# Altium footprint library 按键采集CAN.PcbLib: 15 footprints
Each footprint in its own frame and in the unit in brackets; x right, y up, seen from the top. Pads: shape width x height; smd on the part's side, far side on the other; paste and mask are expansions set on the pad; w line width, h text height; cw(c..) or ccw(c..) is an arc to the next point about the centre after c.
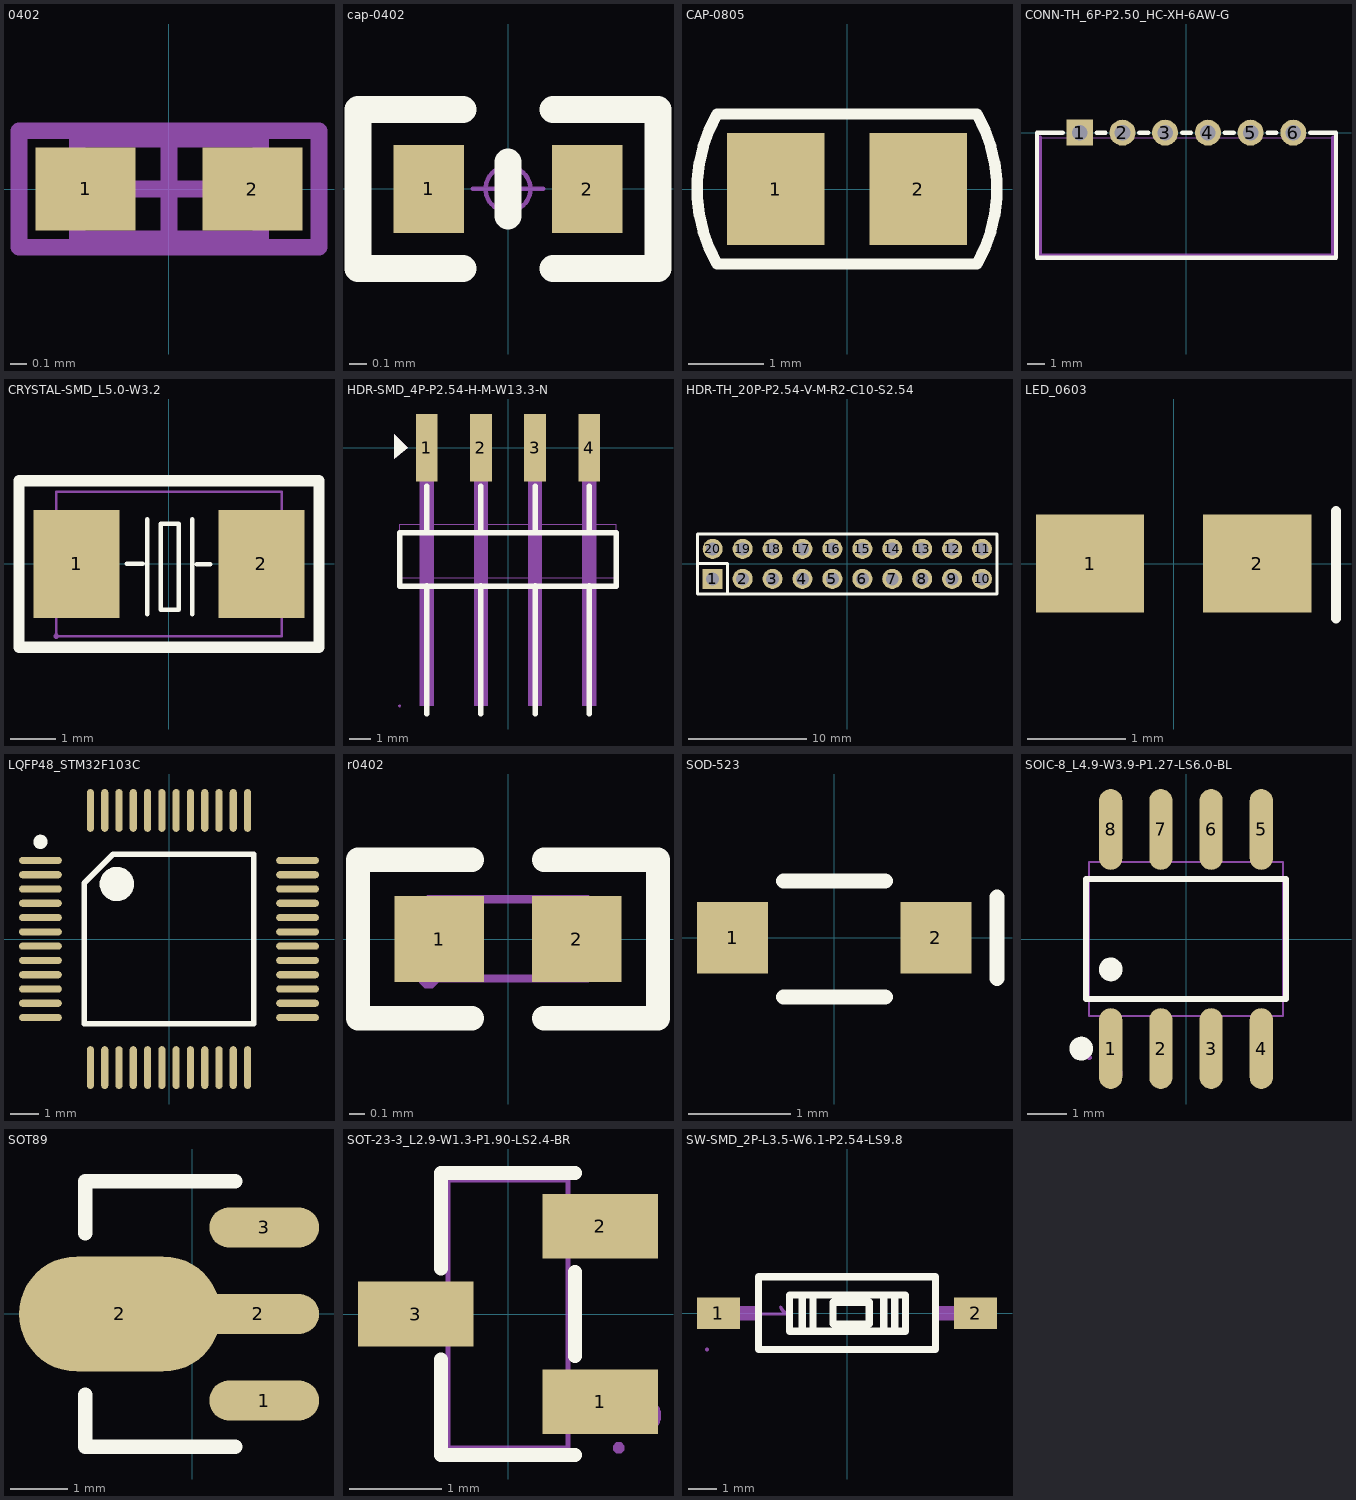
[diagram p0: the footprints below, top view; thin cyan lines are the x and y axes]

## 0402 [mm] "Chip Capacitor, Body 1.0x0.5mm, IPC High Density"
height 1.3
pads (2):
  rect 0.6x0.5 smd: 1(-0.5,0) 2(0.5,0)
Mechanical 13:
  lines w0.1: -0.55,-0.3 0.55,-0.3 0.55,0.3 -0.55,0.3 -0.55,-0.3
Mechanical 15:
  lines w0.1: -0.3,0 0.3,0 ; 0,-0.3 0,0.3 ; -0.9,-0.35 0.9,-0.35 0.9,0.35 -0.9,0.35 -0.9,-0.35
3D body: height 1.3, standoff 0, extent -0.55,-0.3 0.55,0.3

## cap-0402 [mm] "贴片MLCC电容"
pads (2):
  rect 0.4x0.5 smd: 1(-0.45,0) 2(0.45,0)
Top Overlay:
  lines w0.152: -0.254,-0.45 -0.85,-0.45 ; -0.254,0.45 -0.85,0.45 -0.85,-0.45 ; 0,-0.152 0,0.152 ; 0.254,-0.45 0.85,-0.45 0.85,0.45 0.254,0.45 ; -0.85,-0.45 -0.85,-0.45
Mechanical 15:
  circle w0.025: c0,0 r0.127
  lines w0.025: -0.2,0 0.2,0 ; 0,-0.2 0,0.2
3D body "C 0402.STEP": height 0.54, standoff 0.02, extent -0.5,-0.26 0.5,0.26

## CAP-0805 [mm] "0805封装贴片电容"
height 1
pads (2):
  rect 1.3x1.5 smd: 1(-0.95,0) 2(0.95,0)
Top Overlay:
  lines w0.15: -1.732,-1 cw(c0,0) -1.732,1 1.732,1 cw(c0,0) 1.732,-1 -1.732,-1
3D body: height 0.8, standoff 0, extent -1.016,-0.635 1.016,0.635
3D body: height 0.9, standoff 0, extent -1.27,-0.635 -0.889,0.635
3D body: height 0.9, standoff 0, extent 0.889,-0.635 1.27,0.635

## CONN-TH_6P-P2.50_HC-XH-6AW-G [mil]
pads (6):
  rect 60x60 hole 36 paste+0 mask+2: 1(-246,0)
  round 60 hole 36 paste+0 mask+2: 2(-147.6,0) 3(-49.2,0) 4(49.3,0) 5(147.7,0) 6(246.1,0)
Top Overlay:
  lines w10: -285.1,0 -344.4,0 -344.4,-288.2 344.5,-288.2 344.5,0 285.2,0 ; -206.9,0 -186.7,0 ; -108.5,0 -88.3,0 ; -10.1,0 10.2,0 ; 88.4,0 108.6,0 ; 186.8,0 207,0
Mechanical 2:
  region: -333.5,-11.9 -333.5,-278.5 333.6,-278.5 333.6,-11.9 333.6,-9.83 336.53,-6.9 340.67,-6.9 343.6,-9.83 343.6,-11.9 343.6,-283.5 343.6,-284.49 342.84,-286.33 341.43,-287.74 339.59,-288.5 338.6,-288.5 -338.5,-288.5 -339.49,-288.5 -341.33,-287.74 -342.74,-286.33 -343.5,-284.49 -343.5,-283.5 -343.5,-11.9 -343.5,-9.83 -340.57,-6.9 -336.43,-6.9 -333.5,-9.83 -333.5,-11.9
Mechanical 6:
  lines w2: -344.4,-287.2 344.5,-287.2 344.5,-11.6 -344.4,-11.6 -344.4,-287.2
Mechanical 8:
  region: -342,-287.2 -342,-288.19 -343.41,-289.6 -345.39,-289.6 -346.8,-288.19 -346.8,-287.2 -346.8,-286.21 -345.39,-284.8 -343.41,-284.8 -342,-286.21 -342,-287.2 -342.1,-287.2
Mechanical 9:
  region: -258.6,12.5 -233.4,12.5 -233.4,-12.6 -258.6,-12.6
  region: -160.2,12.5 -135,12.5 -135,-12.6 -160.2,-12.6
  region: -61.8,12.5 -36.6,12.5 -36.6,-12.6 -61.8,-12.6
  region: 36.7,12.5 61.9,12.5 61.9,-12.6 36.7,-12.6
  region: 135.1,12.5 160.3,12.5 160.3,-12.6 135.1,-12.6
  region: 233.5,12.5 258.7,12.5 258.7,-12.6 233.5,-12.6
3D body "wafer-xh254wz-6am.step": height 236.14, standoff -130, extent -339.69,-290 349.69,10.79

## CRYSTAL-SMD_L5.0-W3.2 [mm]
height 7.01
pads (2):
  rect 1.9x2.4 smd mask+0.051: 1(-2.05,0) 2(2.05,0)
Top Overlay:
  lines w0.1: -0.94,0 -0.584,0 ; -0.483,-1.109 -0.483,0.991 ; 0.517,-1.109 0.517,0.991 ; 0.617,-0.009 0.917,-0.009 ; -0.183,-1.009 -0.183,0.89 0.217,0.89 0.217,-1.009 -0.183,-1.009
  lines w0.254: -3.325,-1.85 3.325,-1.85 3.325,-0.7 3.325,0.7 3.325,1.85 -3.325,1.85 -3.325,0.7 -3.325,-0.7 -3.325,-1.85
Mechanical 15:
  region: -2.44,-1.6 -2.44,-1.575 -2.475,-1.54 -2.525,-1.54 -2.56,-1.575 -2.56,-1.6 -2.56,-1.625 -2.525,-1.66 -2.475,-1.66 -2.44,-1.625 -2.44,-1.6
  region: -2.4,1 -1.3,1 -1.3,-1 -2.4,-1
  region: 1.3,1 2.4,1 2.4,-1 1.3,-1
  lines w0.051: -2.5,-1.6 -2.5,1.6 2.5,1.6 2.5,-1.6 -2.5,-1.6
3D body "x50328msb2gi.step": height 1.41, standoff -0.01, extent -2.475,-1.6 2.525,1.6

## HDR-SMD_4P-P2.54-H-M-W13.3-N [mm]
pads (4):
  rect 1.021x3.16 smd paste+0 mask+0.051: 1(-3.81,0) 2(-1.27,0) 3(1.27,0) 4(3.81,0)
Top Overlay:
  region: -4.699,0 -5.334,0.635 -5.334,-0.508
  lines w0.254: -3.81,-12.476 -3.81,-6.477 ; -3.81,-3.983 -3.81,-1.811 ; -1.27,-12.476 -1.27,-6.477 ; -1.27,-3.983 -1.27,-1.811 ; 1.27,-12.476 1.27,-6.477 ; 1.27,-3.983 1.27,-1.811 ; 3.81,-12.476 3.81,-6.477 ; 3.81,-3.983 3.81,-1.811 ; -5.08,-6.485 5.08,-6.485 5.08,-3.983 -5.08,-3.983 -5.08,-6.485
Mechanical 2:
  region: -4.699,0 -5.334,0.635 -5.334,-0.508
  region: 3.487,-6.096 3.487,-12.095 4.127,-12.095 4.127,-6.096
  region: 0.947,-6.096 0.947,-12.095 1.587,-12.095 1.587,-6.096
  region: -1.593,-6.096 -1.593,-12.095 -0.953,-12.095 -0.953,-6.096
  region: -4.133,-6.096 -4.133,-12.095 -3.492,-12.095 -3.492,-6.096
Mechanical 6:
  lines w0.051: -5.08,-6.096 5.08,-6.096 5.08,-3.597 -5.08,-3.597 -5.08,-6.096
Mechanical 7:
  region: 3.49,1.204 4.13,1.204 4.13,-12.095 3.49,-12.095
  region: 0.95,1.204 1.59,1.204 1.59,-12.095 0.95,-12.095
  region: -1.59,1.204 -0.95,1.204 -0.95,-12.095 -1.59,-12.095
  region: -4.13,1.204 -3.49,1.204 -3.49,-12.095 -4.13,-12.095
Mechanical 8:
  region: -5.019,-12.095 -5.019,-12.121 -5.055,-12.156 -5.105,-12.156 -5.141,-12.121 -5.141,-12.095 -5.141,-12.07 -5.105,-12.035 -5.055,-12.035 -5.019,-12.07
Mechanical 9:
  region: 3.49,1.204 4.13,1.204 4.13,-0.996 3.49,-0.996
  region: 0.95,1.204 1.59,1.204 1.59,-0.996 0.95,-0.996
  region: -1.59,1.204 -0.95,1.204 -0.95,-0.996 -1.59,-0.996
  region: -4.13,1.204 -3.49,1.204 -3.49,-0.996 -4.13,-0.996

## HDR-TH_20P-P2.54-V-M-R2-C10-S2.54 [mm]
pads (20):
  rect 1.699x1.699 hole 1.1: 1(-11.43,-1.27)
  round 1.699 hole 1.1: 2(-8.89,-1.27) 3(-6.35,-1.27) 4(-3.81,-1.27) 5(-1.27,-1.27) 6(1.27,-1.27) 7(3.81,-1.27) 8(6.35,-1.27) 9(8.89,-1.27) 10(11.43,-1.27) 11(11.43,1.27) 12(8.89,1.27) 13(6.35,1.27) 14(3.81,1.27) 15(1.27,1.27) 16(-1.27,1.27) 17(-3.81,1.27) 18(-6.35,1.27) 19(-8.89,1.27) 20(-11.43,1.27)
Top Overlay:
  lines w0.254: -12.7,0.041 -10.16,0.041 -10.16,-2.499 ; -12.7,-2.54 -12.7,2.54 -10.795,2.54 12.7,2.54 12.7,-2.54 -10.795,-2.54 -12.7,-2.54
Mechanical 6:
  lines w0.051: -12.7,-2.499 12.7,-2.499 12.7,2.499 -12.7,2.499 -12.7,-2.499
Mechanical 8:
  region: -12.639,-2.499 -12.639,-2.525 -12.675,-2.56 -12.725,-2.56 -12.761,-2.525 -12.761,-2.499 -12.761,-2.474 -12.725,-2.438 -12.675,-2.438 -12.639,-2.474
Mechanical 9:
  region: 11.11,1.59 11.75,1.59 11.75,0.95 11.11,0.95
  region: 11.11,-0.95 11.75,-0.95 11.75,-1.59 11.11,-1.59
  region: 8.57,1.59 9.21,1.59 9.21,0.95 8.57,0.95
  region: 8.57,-0.95 9.21,-0.95 9.21,-1.59 8.57,-1.59
  region: 6.03,1.59 6.67,1.59 6.67,0.95 6.03,0.95
  region: 6.03,-0.95 6.67,-0.95 6.67,-1.59 6.03,-1.59
  region: 3.49,1.59 4.13,1.59 4.13,0.95 3.49,0.95
  region: 3.49,-0.95 4.13,-0.95 4.13,-1.59 3.49,-1.59
  region: 0.95,1.59 1.59,1.59 1.59,0.95 0.95,0.95
  region: 0.95,-0.95 1.59,-0.95 1.59,-1.59 0.95,-1.59
  region: -1.59,1.59 -0.95,1.59 -0.95,0.95 -1.59,0.95
  region: -1.59,-0.95 -0.95,-0.95 -0.95,-1.59 -1.59,-1.59
  region: -4.13,1.59 -3.49,1.59 -3.49,0.95 -4.13,0.95
  region: -4.13,-0.95 -3.49,-0.95 -3.49,-1.59 -4.13,-1.59
  region: -6.67,1.59 -6.03,1.59 -6.03,0.95 -6.67,0.95
  region: -6.67,-0.95 -6.03,-0.95 -6.03,-1.59 -6.67,-1.59
  region: -9.21,1.59 -8.57,1.59 -8.57,0.95 -9.21,0.95
  region: -9.21,-0.95 -8.57,-0.95 -8.57,-1.59 -9.21,-1.59
  region: -11.75,1.59 -11.11,1.59 -11.11,0.95 -11.75,0.95
  region: -11.75,-0.95 -11.11,-0.95 -11.11,-1.59 -11.75,-1.59

## LED_0603 [mm] "带丝印层"
height 1.45
pads (2):
  rect 1.1x1 smd: 1(-0.85,0) 2(0.85,0)
Top Overlay:
  lines w0.1: 1.651,-0.559 1.651,0.533
3D body "LED_0603(Yellow).STEP": height 0.6, standoff 0, extent -0.81,-0.4 0.81,0.4

## LQFP48_STM32F103C [mm]
height 1.45
pads (48):
  oval 1.5x0.25 smd: 1(-4.5,2.75) 2(-4.5,2.25) 3(-4.5,1.75) 4(-4.5,1.25) 5(-4.5,0.75) 6(-4.5,0.25) 7(-4.5,-0.25) 8(-4.5,-0.75) 9(-4.5,-1.25) 10(-4.5,-1.75) 11(-4.5,-2.25) 12(-4.5,-2.75) 25(4.5,-2.75) 26(4.5,-2.25) 27(4.5,-1.75) 28(4.5,-1.25) 29(4.5,-0.75) 30(4.5,-0.25) 31(4.5,0.25) 32(4.5,0.75) 33(4.5,1.25) 34(4.5,1.75) 35(4.5,2.25) 36(4.5,2.75)
  oval 0.25x1.5 smd: 13(-2.75,-4.5) 14(-2.25,-4.5) 15(-1.75,-4.5) 16(-1.25,-4.5) 17(-0.75,-4.5) 18(-0.25,-4.5) 19(0.25,-4.5) 20(0.75,-4.5) 21(1.25,-4.5) 22(1.75,-4.5) 23(2.25,-4.5) 24(2.75,-4.5) 37(2.75,4.5) 38(2.25,4.5) 39(1.75,4.5) 40(1.25,4.5) 41(0.75,4.5) 42(0.25,4.5) 43(-0.25,4.5) 44(-0.75,4.5) 45(-1.25,4.5) 46(-1.75,4.5) 47(-2.25,4.5) 48(-2.75,4.5)
Top Overlay:
  circle w0.6: c-1.825,1.925 r0.3
  circle w0.25: c-4.5,3.4 r0.125
  lines w0.2: -2.965,-2.965 2.965,-2.965 2.965,2.965 -1.96,2.965 -2.965,1.96 -2.965,-2.965
3D body "LQFP48-STM32F103C8T6.STEP": height 1.6, standoff 0, extent -4.521,-4.493 4.479,4.507

## r0402 [mm]
pads (2):
  rect 0.566x0.54 smd mask+0.051: 1(-0.433,0) 2(0.433,0)
Top Overlay:
  lines w0.152: -0.226,-0.499 -0.944,-0.499 -0.944,0.499 -0.226,0.499 ; 0.226,-0.499 0.944,-0.499 0.944,0.499 0.226,0.499
Top Paste:
  region: -0.135,-0.23 -0.135,0.23 -0.175,0.27 -0.676,0.27 -0.716,0.23 -0.716,-0.23 -0.676,-0.27 -0.175,-0.27
  region: 0.135,-0.23 0.135,0.23 0.175,0.27 0.676,0.27 0.716,0.23 0.716,-0.23 0.676,-0.27 0.175,-0.27
Mechanical 15:
  region: -0.249,0.25 -0.249,-0.25 -0.499,-0.25 -0.499,0.25
  region: 0.251,-0.25 0.251,0.25 0.501,0.25 0.501,-0.25
  region: -0.44,-0.25 -0.44,-0.225 -0.475,-0.19 -0.525,-0.19 -0.56,-0.225 -0.56,-0.25 -0.56,-0.275 -0.525,-0.31 -0.475,-0.31 -0.44,-0.275 -0.44,-0.25
  lines w0.051: -0.5,-0.25 0.5,-0.25 0.5,0.25 -0.5,0.25 -0.5,-0.25
3D body "R0402.STEP": height 0.3, standoff 0, extent -0.5,-0.25 0.5,0.25

## SOD-523 [mm]
pads (2):
  rect 0.7x0.7 smd: 1(-1,0) 2(1,0)
Top Overlay:
  lines w0.15: -0.5,-0.584 0.5,-0.584 ; -0.5,0.559 0.5,0.559 ; 1.6,-0.4 1.6,0.4
3D body "SOD-523.STEP": height 0.7, standoff 0, extent -0.8,-0.424 0.8,0.373

## SOIC-8_L4.9-W3.9-P1.27-LS6.0-BL [mm]
height 7.01
pads (8):
  oval 0.588x2.045 smd: 1(-1.905,-2.772) 2(-0.635,-2.772) 3(0.635,-2.772) 4(1.905,-2.772) 5(1.905,2.772) 6(0.635,2.772) 7(-0.635,2.772) 8(-1.905,2.772)
Top Overlay:
  circle w0.3: c-2.652,-2.772 r0.15
  circle w0.3: c-1.905,-0.769 r0.15
  lines w0.152: -2.526,-1.521 2.526,-1.521 2.526,1.521 -2.526,1.521 -2.526,-1.521
Mechanical 6:
  circle w0.3: c-1.905,-3.4 r0.15
Mechanical 15:
  region: 1.695,2.175 1.695,1.94 2.115,1.94 2.115,2.175
  region: 1.695,3 1.695,2.165 2.115,2.165 2.115,3
  region: 0.425,2.175 0.425,1.94 0.845,1.94 0.845,2.175
  region: 0.425,3 0.425,2.165 0.845,2.165 0.845,3
  region: -0.845,2.175 -0.845,1.94 -0.425,1.94 -0.425,2.175
  region: -0.845,3 -0.845,2.165 -0.425,2.165 -0.425,3
  region: -2.115,2.175 -2.115,1.94 -1.695,1.94 -1.695,2.175
  region: -2.115,3 -2.115,2.165 -1.695,2.165 -1.695,3
  region: 1.695,-2.175 1.695,-1.94 2.115,-1.94 2.115,-2.175
  region: 1.695,-3 1.695,-2.165 2.115,-2.165 2.115,-3
  region: 0.425,-2.175 0.425,-1.94 0.845,-1.94 0.845,-2.175
  region: 0.425,-3 0.425,-2.165 0.845,-2.165 0.845,-3
  region: -0.845,-2.175 -0.845,-1.94 -0.425,-1.94 -0.425,-2.175
  region: -0.845,-3 -0.845,-2.165 -0.425,-2.165 -0.425,-3
  region: -2.115,-2.175 -2.115,-1.94 -1.695,-1.94 -1.695,-2.175
  region: -2.115,-3 -2.115,-2.165 -1.695,-2.165 -1.695,-3
  region: -2.39,-3 -2.391,-2.976 -2.426,-2.941 -2.475,-2.941 -2.51,-2.975 -2.51,-3 -2.51,-3.024 -2.475,-3.059 -2.426,-3.059 -2.391,-3.024 -2.39,-3
  lines w0.051: -2.45,-1.95 2.45,-1.95 2.45,1.95 -2.45,1.95 -2.45,-1.95
3D body "SOP8.STEP": height 1.9, standoff 0, extent -2.493,-3.067 2.507,2.938

## SOT89 [mm] "SOT89封装"
height 7.01
pads (4):
  oval 1.9x0.7 smd: 1(1.25,-1.5) 3(1.25,1.5)
  oval 3.5x2 smd: 2(-1.25,0)
  oval 2.1x0.7 smd: 2(1.151,0)
Top Overlay:
  lines w0.254: -1.85,-1.4 -1.85,-2.3 0.75,-2.3 ; -1.85,1.4 -1.85,2.3 0.75,2.3
3D body "SOT89.STEP": height 1.5, standoff 0, extent -2.3,-2.25 1.7,2.25

## SOT-23-3_L2.9-W1.3-P1.90-LS2.4-BR [mm]
height 7.01
pads (3):
  rect 1.25x0.7 smd mask+0.051: 1(1,-0.95) 2(1,0.95) 3(-1,0)
Top Overlay:
  lines w0.152: -0.726,-0.495 -0.726,-1.526 0.726,-1.526 ; -0.726,0.495 -0.726,1.526 0.726,1.526 ; 0.726,-0.455 0.726,0.455
Mechanical 6:
  circle w0.2: c1.46,-1.1 r0.1
Mechanical 15:
  region: 1.26,-1.45 1.26,-1.425 1.225,-1.39 1.175,-1.39 1.14,-1.425 1.14,-1.45 1.14,-1.475 1.175,-1.51 1.225,-1.51 1.26,-1.475 1.26,-1.45
  region: 0.64,0.735 0.64,1.165 0.91,1.165 0.91,0.735
  region: 0.9,0.735 0.9,1.165 1.2,1.165 1.2,0.735
  region: 0.64,-1.165 0.64,-0.735 0.91,-0.735 0.91,-1.165
  region: 0.9,-1.165 0.9,-0.735 1.2,-0.735 1.2,-1.165
  region: -0.91,-0.215 -0.91,0.215 -0.64,0.215 -0.64,-0.215
  region: -1.2,-0.215 -1.2,0.215 -0.9,0.215 -0.9,-0.215
  lines w0.051: -0.65,-1.45 -0.65,1.45 0.65,1.45 0.65,-1.45 -0.65,-1.45
3D body "pesd1can_c907838.step": height 1.4, standoff 0, extent -1.4,-1.45 1.4,1.45

## SW-SMD_2P-L3.5-W6.1-P2.54-LS9.8 [mm]
height 7.01
pads (2):
  rect 1.501x1.1 smd: 1(-4.501,0) 2(4.501,0)
Top Overlay:
  lines w0.254: -1.57,-0.635 -1.57,0.635 ; -1.189,-0.635 -1.189,0.635 ; 1.288,-0.635 1.288,0.635 ; 1.669,-0.635 1.669,0.635 ; -3.101,-1.27 3.099,-1.27 3.099,1.27 -3.101,1.27 -3.101,-1.27 ; -2.014,-0.635 -2.014,0.635 2.05,0.635 2.05,-0.635 -2.014,-0.635 ; -0.49,-0.381 -0.49,0.381 0.78,0.381 0.78,-0.381 -0.49,-0.381
Mechanical 2:
  region: -2.314,0.259 -2.334,0.259 -2.375,0.218 -2.355,0.15 -2.314,0.079 -2.256,0.018 -3.076,0.018 -3.086,0.028 -3.106,0.028 -3.134,0 -3.134,-0.041 -3.124,-0.071 -3.096,-0.081 -2.116,-0.081 -2.106,-0.081 -2.09,-0.076 -2.08,-0.066 -2.07,-0.056 -2.065,-0.03 -2.075,-0.01 -2.095,0.018 -2.126,0.048 -2.215,0.14 -2.276,0.239
Mechanical 6:
  lines w0.051: -3.101,-1.27 3.099,-1.27 3.099,1.27 -3.101,1.27 -3.101,-1.27
Mechanical 7:
  region: -4.409,-0.251 -4.409,0.249 -3.091,0.249 -3.091,-0.251
  region: 3.089,-0.251 3.089,0.249 4.409,0.249 4.409,-0.251
Mechanical 8:
  region: -4.839,-1.27 -4.839,-1.295 -4.874,-1.331 -4.925,-1.331 -4.961,-1.295 -4.961,-1.27 -4.961,-1.245 -4.925,-1.209 -4.874,-1.209 -4.839,-1.245
Mechanical 9:
  region: -4.9,-0.251 -4.9,0.249 -4.399,0.249 -4.399,-0.251
  region: 4.399,-0.251 4.399,0.249 4.9,0.249 4.9,-0.251